# Altium schematic symbol library Cap X2Y.Schlib: 1 symbol
Pins are listed as number, name and electrical type; pins without a type are passive.

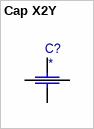
[diagram p0: symbol Cap X2Y]

## Cap X2Y
designator C?
Capacitor - X2Y
simulation model CAP (Capacitor)
signal-integrity model Cap X2Y
pins: 1 A, 2 B, 3 G1, 4 G2